# Altium footprint library 12.Trimmers.PcbLib: 12 footprints
Each footprint in its own frame and in the unit in brackets; x right, y up, seen from the top. Pads: shape width x height; smd on the part's side, far side on the other; paste and mask are expansions set on the pad; w line width, h text height; cw(c..) or ccw(c..) is an arc to the next point about the centre after c.
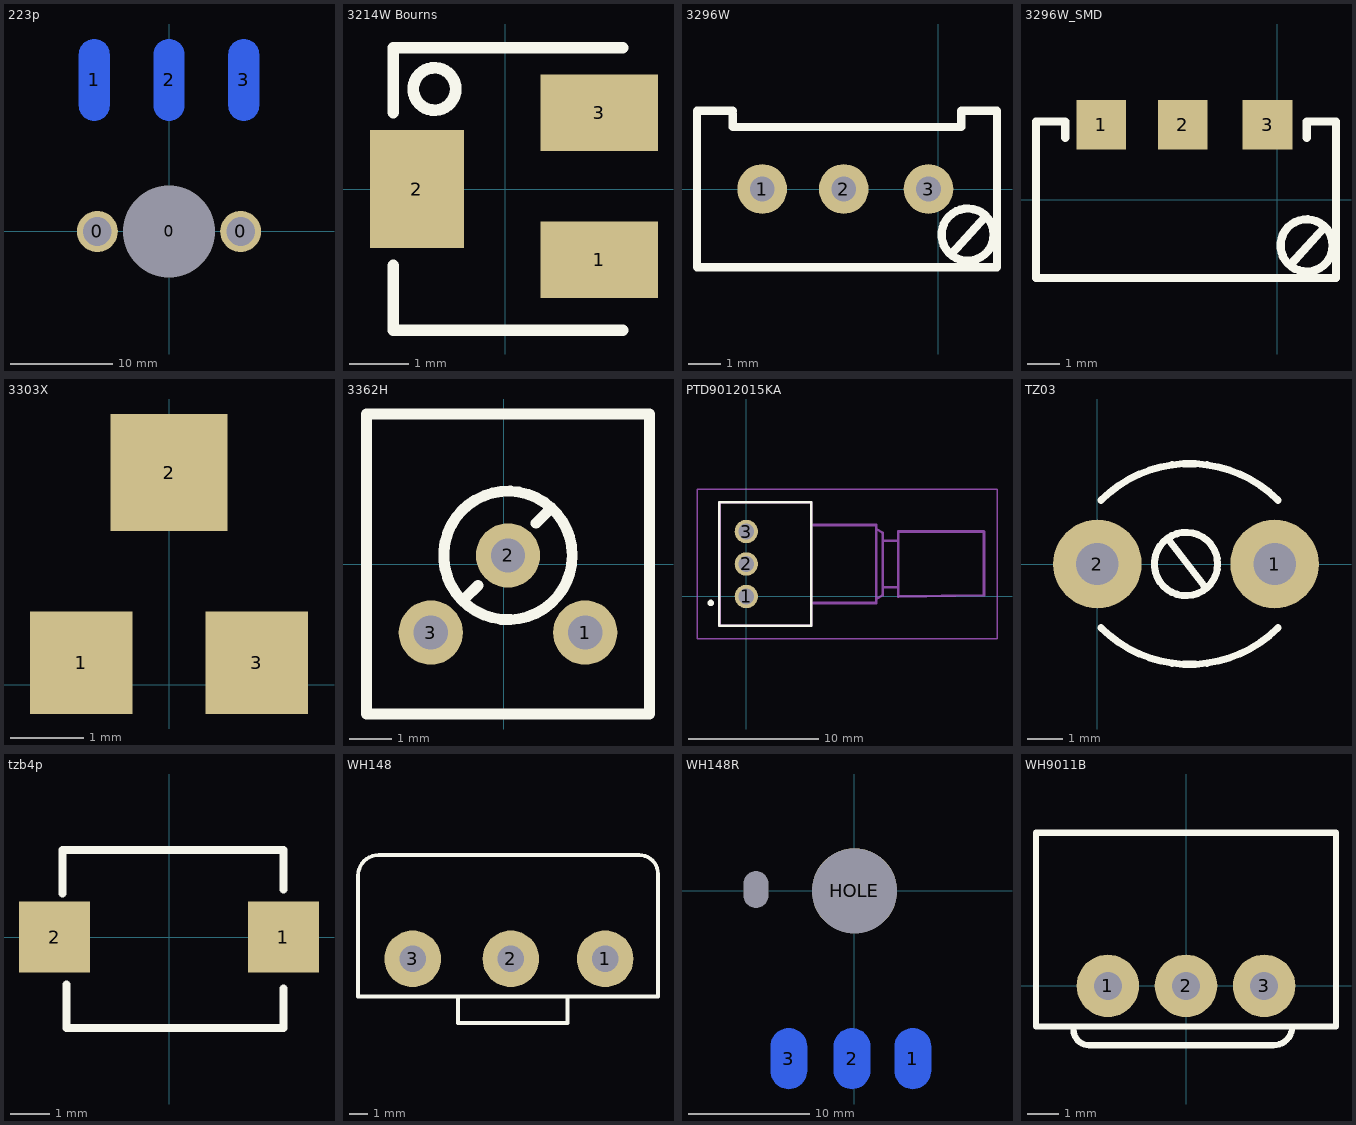
[diagram p0: the footprints below, top view; thin cyan lines are the x and y axes]

## 223p [mm]
pads (6):
  round 4 hole 2.8: 0(-7,0) 0(7,0)
  round 2 hole 9: 0(0,0)
  oval 3x8 smd far side: 1(-7.3,14.8) 2(0,14.8) 3(7.3,14.8)
Bottom Overlay:
  lines w0.25: -10.5,-10.5 10.5,-10.5 10.5,10.5 -10.5,10.5 -10.5,-10.5
3D body: height 14, standoff 0, extent -10.5,-10.5 10.5,10.5
3D body: height 5, standoff 2, extent -19.884,-19.8 19.885,19.971

## 3214W Bourns [mm]
pads (3):
  rect 2x1.3 smd: 1(1.6,-1.2) 3(1.6,1.3)
  rect 1.6x2 smd: 2(-1.5,0)
Top Overlay:
  circle w0.2: c-1.2,1.7 r0.361
  lines w0.2: -1.9,-1.3 -1.9,-2.4 2,-2.4 ; -1.9,1.3 -1.9,2.4 2,2.4
3D body "User Library-Pot 3214.step": height 5.5, standoff 0.1, extent -1.87,-2.4 2.07,2.4

## 3296W [mil]
pads (3):
  round 60 hole 30: 1(-212.6,0) 2(-114.17,0) 3(-11.81,0)
Top Overlay:
  circle w10: c35.43,-55.12 r31.5
  lines w10: -248.03,90.55 -248.03,74.8 27.56,74.8 27.56,94.49 70.87,94.49 70.87,-94.49 -291.34,-94.49 -291.34,94.49 -248.03,94.49 ; 15.75,-78.74 57.08,-33.28
3D body "User Library-Potenciometro Vertical.step": height 474.72, standoff -214.26, extent -291.34,-94.49 70.86,94.49

## 3296W_SMD [mm]
pads (3):
  rect 1.524x1.524 smd: 1(-5.4,2.3) 2(-2.9,2.3) 3(-0.3,2.3)
Top Overlay:
  circle w0.254: c0.9,-1.4 r0.8
  lines w0.254: -6.5,1.9 -6.5,2.4 -7.4,2.4 -7.4,-2.4 1.8,-2.4 1.8,2.4 0.9,2.4 0.9,1.9 ; 0.4,-2 1.45,-0.845

## 3303X [mm]
pads (3):
  rect 1.4x1.4 smd mask+0.102: 1(-1.2,0.3) 3(1.2,0.3)
  rect 1.6x1.6 smd: 2(0,2.9)
Top Solder:
  region: 1.9,-0.4 1.9,1 1,1 0.5,0.5 0.5,-0.4
  region: -1.9,-0.4 -1.9,1 -1,1 -0.5,0.5 -0.5,-0.4
3D body "3303W.STEP": height 1.62, standoff 0, extent -1.55,-0.25 1.55,3.55

## 3362H [mm]
pads (3):
  round 1.5 hole 0.8: 1(1.9,-1.6) 2(0.1,0.2) 3(-1.7,-1.6)
Top Overlay:
  circle w0.254: c0.1,0.2 r1.5
  lines w0.254: -0.9,-0.8 -0.6,-0.5 ; 0.75,0.95 1.1,1.3 ; -3.2,-3.5 3.4,-3.5 3.4,3.5 -3.2,3.5 -3.2,-3.5
3D body "User Library-Bourns 3362H.step": height 4.7, standoff -5.47, extent -3.2,-3.781 3.4,3.273

## PTD9012015KA [mm]
pads (3):
  round 1.8 hole 1.2: 1(0,0) 2(0,2.5) 3(0,5)
Top Overlay:
  circle w0.4: c-2.75,-0.5 r0.05
  lines w0.2: -2.8,-0.5 cw(c-2.75,-0.5) -2.7,-0.5 ; -2.1,-2.25 5,-2.25 5,7.25 -2.1,7.25 -2.1,-2.25
Mechanical 13:
  lines w0.2: 5,-0.5 10,-0.5 10,5.5 5,5.5 ; 10,-0.2 10.5,0.1 10.5,4.6 10.5,4.9 10,5.2 ; 10.5,0.7 11.7,0.7 ; 10.5,4.3 11.7,4.3 ; 11.7,0.7 11.7,4.3 ; 11.7,0.7 11.7,0 18.3,0.1 18.3,5 11.7,5 11.7,4.3 ; -2.05,-2.25 5,-2.25 5,7.25 -2.05,7.25 -2.05,-2.25
Mechanical 15:
  lines w0.1: -3.8,-3.25 19.3,-3.25 19.3,8.25 -3.8,8.25 -3.8,-3.25

## TZ03 [mm] "Murata Trimmer Capacitor"
pads (2):
  round 2.5 hole 1.2: 1(5,0) 2(0,0)
Top Overlay:
  circle w0.2: c2.5,0 r0.894
  lines w0.2: 0.1,-1.8 ccw(c2.6,0.7) 5.1,-1.8 ; 0.1,1.8 cw(c2.6,-0.7) 5.1,1.8 ; 2,0.7 3,-0.6
3D body "User Library-Murata TZ03.step": height 5, standoff -3.1, extent -0.4,-3 5.6,3

## tzb4p [mm]
pads (2):
  rect 1.8x1.8 smd: 1(2.9,0) 2(-2.9,0)
Top Overlay:
  lines w0.2: -2.7,1.1 -2.7,2.2 2.9,2.2 2.9,1.2 ; -2.6,-1.2 -2.6,-2.3 2.9,-2.3 2.9,-1.3
3D body "User Library-trimmer.step": height 3.2, standoff -0.05, extent -3.523,-2.1 3.523,2.1

## WH148 [mm]
pads (3):
  round 3 hole 1.4: 1(-3.9,9.1) 2(-8.9,9.1) 3(-14.1,9.1)
Top Overlay:
  lines w0.2: -11.7,7.1 -11.7,5.7 -5.9,5.7 -5.9,7.1 ; -1.1,13.4 -1.1,13.6 ccw(c-2.1,13.6) -2.1,14.6 -15.9,14.6 ccw(c-15.9,13.5) -17,13.5 -17,7.1 -1.1,7.1 -1.1,13.5
3D body "User Library-Pot.step": height 20.64, standoff -4, extent -16.874,-11.032 -1.126,14.526

## WH148R [mm]
pads (5):
  oval 3x5 smd far side: 1(4.8,-13.8) 2(-0.2,-13.8) 3(-5.4,-13.8)
  round 0 hole 3 slot 2 at 0 deg: HOLE(-8.1,0.1)
  round 7 hole 7: HOLE(0,0)
Bottom Overlay:
  lines w0.2: -8.2,-2 -8.2,-10 7.6,-10 7.6,-3.5 ; -8.092,2.158 cw(c0,0) 7.637,-3.437 ; -5.4,-11.8 -5.4,-10.1 ; -0.2,-11.8 -0.2,-10.1 ; 4.8,-11.8 4.8,-10.1
3D body "User Library-Pot.step": height 17.73, standoff -7.83, extent -8.174,-16.4 7.574,8.238

## WH9011B [mm]
pads (3):
  round 2 hole 0.9: 1(-2.5,0) 2(0,0) 3(2.5,0)
Top Overlay:
  lines w0.2: -3.6,-1.3 -3.6,-1.4 ccw(c-3.1,-1.4) -3.1,-1.9 2.8,-1.9 ccw(c2.8,-1.3) 3.4,-1.3 ; -4.8,-1.3 4.8,-1.3 4.8,4.9 -4.8,4.9 -4.8,-1.3
3D body "User Library-9mm Rotary Horr Pot.step": height 11.3, standoff -3.9, extent -4.8,-2.1 4.8,20.4